# Altium schematic symbol library Soil_Moisture_Sensor.SchLib: 10 symbols
Pins are listed as number, name and electrical type; pins without a type are passive.

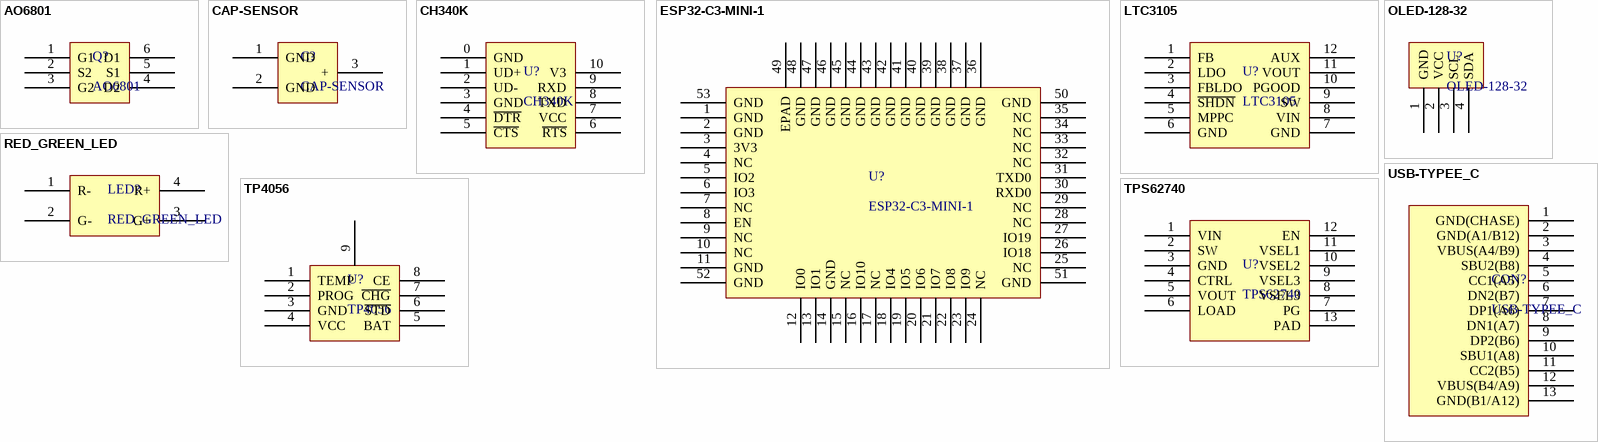
[diagram p0: symbols AO6801 to USB-TYPEE_C]

## AO6801
designator Q?
footprint SOT95P330-6M
pins: 1 G1, 2 S2, 3 G2, 4 D2, 5 S1, 6 D1

## CAP-SENSOR
designator C?
footprint CAP-SENSOR
pins: 1 GND, 2 GND, 3 +

## CH340K
designator U?
footprint ESOP100-10 (10-Pin Small Outline Package 1.00 mm Pitch and Pad)
pins: 0 GND, 1 UD+, 2 UD-, 3 GND, 4 ~{DTR}, 5 ~{CTS}, 6 ~{RTS}, 7 VCC, 8 TXD, 9 RXD, 10 V3

## ESP32-C3-MINI-1
designator U?
footprint XCVR_ESP32-C3-MINI-1-N4
pins: 1 GND, 2 GND, 3 3V3, 4 NC, 5 IO2, 6 IO3, 7 NC, 8 EN, 9 NC, 10 NC, 11 GND, 12 IO0, 13 IO1, 14 GND, 15 NC, 16 IO10, 17 NC, 18 IO4, 19 IO5, 20 IO6, 21 IO7, 22 IO8, 23 IO9, 24 NC, 25 NC, 26 IO18, 27 IO19, 28 NC, 29 NC, 30 RXD0, 31 TXD0, 32 NC, 33 NC, 34 NC, 35 NC, 36 GND, 37 GND, 38 GND, 39 GND, 40 GND, 41 GND, 42 GND, 43 GND, 44 GND, 45 GND, 46 GND, 47 GND, 48 GND, 49 EPAD, 50 GND, 51 GND, 52 GND, 53 GND

## LTC3105
designator U?
footprint TSOP65P490X110-12L (TSOP, 12-Leads, Body 4.04x3.00mm, Pitch 0.65mm, IPC High Density)
pins: 1 FB, 2 LDO, 3 FBLDO, 4 ~{SHDN}, 5 MPPC, 6 GND, 7 GND, 8 VIN, 9 SW, 10 PGOOD, 11 VOUT, 12 AUX

## OLED-128-32
designator U?
footprint OLED-128-32
pins: 1 GND, 2 VCC, 3 SCL, 4 SDA

## RED_GREEN_LED
designator LED?
footprint RED_GREEN_LED1206
pins: 1 R-, 2 G-, 3 G+, 4 R+

## TP4056
designator U?
footprint SOP127P780-8M (SOP, 8-Leads, Body 5.3x5.3mm, Pitch 1.27mm, IPC Low Density)
pins: 1 TEMP, 2 PROG, 3 GND, 4 VCC, 5 BAT, 6 ~{STD}, 7 ~{CHG}, 8 CE, 9

## TPS62740
designator U?
footprint DSS0012A
pins: 1 VIN, 2 SW, 3 GND, 4 CTRL, 5 VOUT, 6 LOAD, 7 PG, 8 VSEL3, 9 VSEL3, 10 VSEL2, 11 VSEL1, 12 EN, 13 PAD

## USB-TYPEE_C
designator CON?
footprint USB-TYPE_C
pins: 1 GND(CHASE), 2 GND(A1/B12), 3 VBUS(A4/B9), 4 SBU2(B8), 5 CC1(A5), 6 DN2(B7), 7 DP1(A6), 8 DN1(A7), 9 DP2(B6), 10 SBU1(A8), 11 CC2(B5), 12 VBUS(B4/A9), 13 GND(B1/A12)